# EAGLE library part ICEWERX-PL2 (library apu-csk-motherboard)
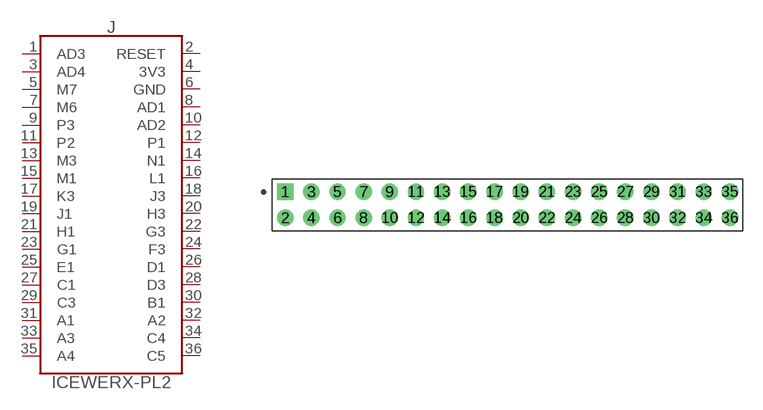
[diagram p8: symbol with the pads of TE_4-1734506-1; footprint TE_4-1734506-1]

Designator prefix J

## ICEWERX-PL2  [TE_4-1734506-1]
1  AD3
2  RESET
3  AD4
4  3V3
5  M7
6  GND
7  M6
8  AD1
9  P3
10  AD2
11  P2
12  P1
13  M3
14  N1
15  M1
16  L1
17  K3
18  J3
19  J1
20  H3
21  H1
22  G3
23  G1
24  F3
25  E1
26  D1
27  C1
28  D3
29  C3
30  B1
31  A1
32  A2
33  A3
34  C4
35  A4
36  C5

## Footprint TE_4-1734506-1 (pad centres in mm)
drill 0.75 pad 1.1 square: 1 0,0
drill 0.75 pad 1.1: 2 0,-2; 3 2.007,0; 4 2.007,-2; 5 4.013,0; 6 4.013,-2; 7 6.02,0; 8 6.02,-2; 9 8.026,0; 10 8.026,-2; 11 10.033,0; 12 10.033,-2; 13 12.04,0; 14 12.04,-2; 15 14.046,0; 16 14.046,-2; 17 16.053,0; 18 16.053,-2; 19 18.059,0; 20 18.059,-2; 21 20.066,0; 22 20.066,-2; 23 22.073,0; 24 22.073,-2; 25 24.079,0; 26 24.079,-2; 27 26.086,0; 28 26.086,-2; 29 28.092,0; 30 28.092,-2; 31 30.099,0; 32 30.099,-2; 33 32.106,0; 34 32.106,-2; 35 34.112,0; 36 34.112,-2